# EAGLE library part SN74AVC4T245 (library project)
4-Bit level shifter
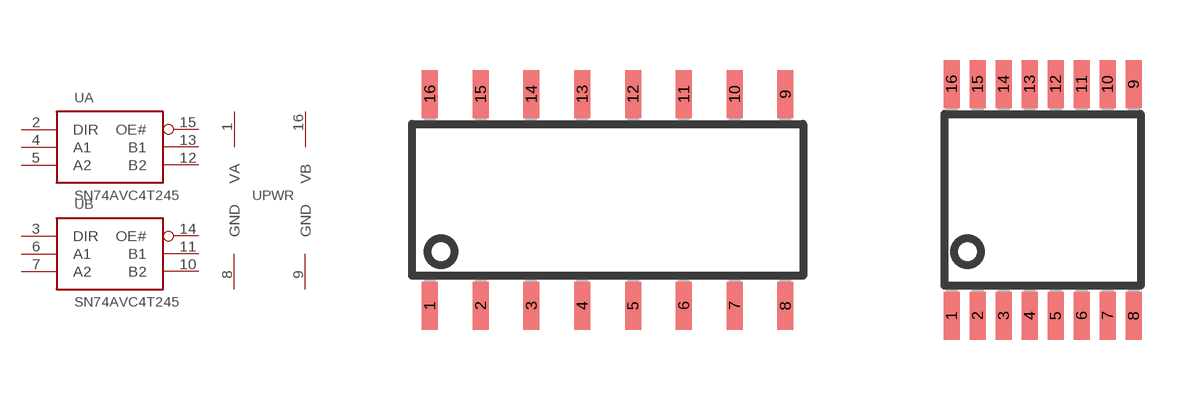
[diagram p3: symbol with the pads of D_R-PDSO-G16; footprints D_R-PDSO-G16, PW_R-PDSO-G16]

Designator prefix U; gates A=LVLSHFT2BIT B=LVLSHFT2BIT PWR=LVLSHFTPWR

## SN74AVC4T245D  [D_R-PDSO-G16]
1  PWR:VA  pwr
2  A:DIR  in
3  B:DIR  in
4  A:A1
5  A:A2
6  B:A1
7  B:A2
8  PWR:GND
9  PWR:GND
10  B:B2
11  B:B1
12  A:B2
13  A:B1
14  B:OE#  in
15  A:OE#  in
16  PWR:VB

## SN74AVC4T245PW  [PW_R-PDSO-G16]
Pads as for D_R-PDSO-G16

## Footprint D_R-PDSO-G16 (pad centres in mm)
PLASTIC SMALL-OUTLINE PACKAGE SO 16 JEDEC MS-012, D Type Source: www.ti.com/.. slvs087l.pdf
smd 0.4 x 1.2: 1 -4.445,-2.65; 2 -3.175,-2.65; 3 -1.905,-2.65; 4 -0.635,-2.65; 5 0.635,-2.65; 6 1.905,-2.65; 7 3.175,-2.65; 8 4.445,-2.65; 9 4.445,2.65; 10 3.175,2.65; 11 1.905,2.65; 12 0.635,2.65; 13 -0.635,2.65; 14 -1.905,2.65; 15 -3.175,2.65; 16 -4.445,2.65

## Footprint PW_R-PDSO-G16 (pad centres in mm)
PLASTIC SMALL-OUTLINE PACKAGE SO 16 JEDEC MO-153, PW Type Source: www.ti.com/.. slvs087l.pdf
smd 0.4 x 1.2: 1 -2.275,-2.9; 2 -1.625,-2.9; 3 -0.975,-2.9; 4 -0.325,-2.9; 5 0.325,-2.9; 6 0.975,-2.9; 7 1.625,-2.9; 8 2.275,-2.9; 9 2.275,2.9; 10 1.625,2.9; 11 0.975,2.9; 12 0.325,2.9; 13 -0.325,2.9; 14 -0.975,2.9; 15 -1.625,2.9; 16 -2.275,2.9